# Altium footprint library 剥皮器20200614.PcbLib: 34 footprints (part 3 of 3)
Each footprint in its own frame and in the unit in brackets; x right, y up, seen from the top. Pads: shape width x height; smd on the part's side, far side on the other; paste and mask are expansions set on the pad; w line width, h text height; cw(c..) or ccw(c..) is an arc to the next point about the centre after c.
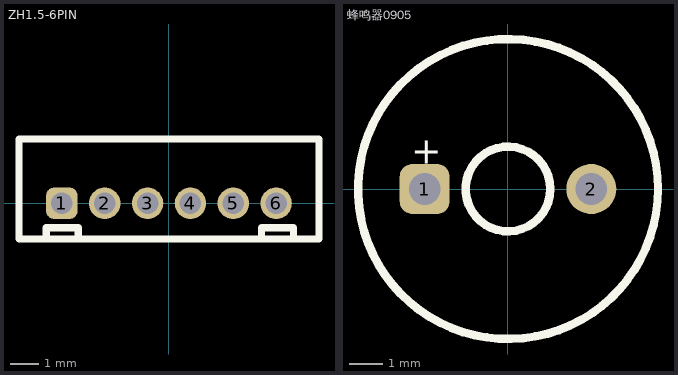
[diagram p2: the footprints below, top view; thin cyan lines are the x and y axes]

## ZH1.5-6PIN [mm]
pads (6):
  rrect50% 1.1x1.1 hole 0.75: 1(-3.75,0)
  round 1.1 hole 0.75: 2(-2.25,0) 3(-0.75,0) 4(0.75,0) 5(2.25,0) 6(3.75,0)
Top Overlay:
  lines w0.254: -4.614,-1.25 -4.296,-1.25 -4.296,-0.852 -3.174,-0.852 -3.174,-1.25 ; 2.916,-1.25 3.234,-1.25 3.234,-0.852 4.356,-0.852 4.356,-1.25 ; 5.25,-1.25 5.25,2.25 ; 5.25,-1.25 5.25,2.25 ; 5.25,-1.25 -5.25,-1.25 -5.25,2.25 5.25,2.25

## 蜂鸣器0905 [mm]
pads (2):
  rrect50% 1.5x1.5 hole 0.95: 1(-2.5,0)
  round 1.5 hole 0.95: 2(2.5,0)
Top Overlay:
  circle w0.254: c0,0 r1.27
  circle w0.254: c0,0 r4.5
  text "+" at -2.903,0.756 h0.8